# Altium footprint library PCB - RESISTOR - CHIP - YAGEO RES RK73 RS73 SG73 0805_2012.PCBLIB: 1 footprints
Each footprint in its own frame and in the unit in brackets; x right, y up, seen from the top. Pads: shape width x height; smd on the part's side, far side on the other; paste and mask are expansions set on the pad; w line width, h text height; cw(c..) or ccw(c..) is an arc to the next point about the centre after c.
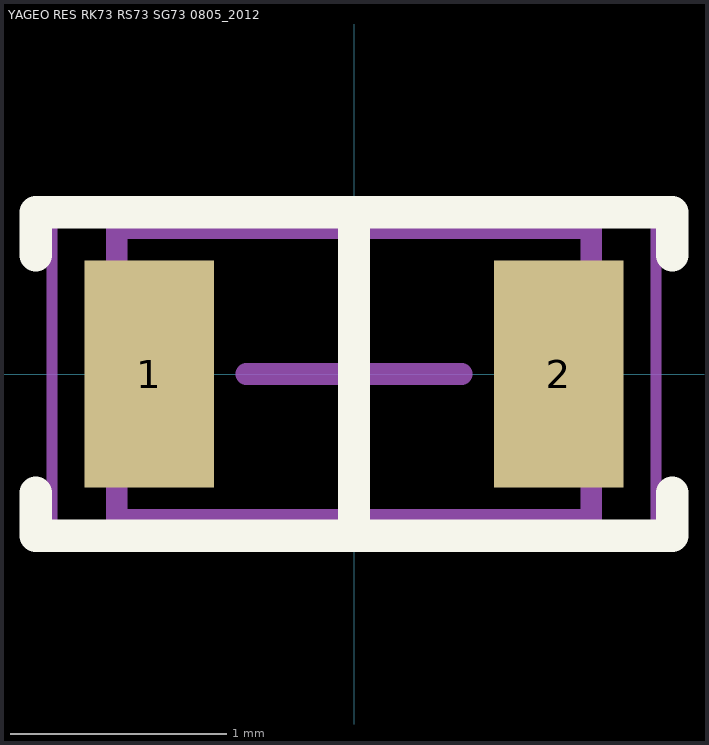
[diagram p0: the footprint, top view; thin cyan lines are the x and y axes]

## YAGEO RES RK73 RS73 SG73 0805_2012 [mm] "Chip Resistor, 2-Leads, Body 2.00x1.25mm"
height 0.7
pads (2):
  rect 0.6x1.05 smd: 1(-0.95,0) 2(0.95,0)
Top Overlay:
  lines w0.15: -1.475,-0.55 -1.475,-0.75 1.475,-0.75 1.475,-0.55 ; -1.475,0.55 -1.475,0.75 1.475,0.75 1.475,0.55 ; 0,-0.75 0,0.75
Mechanical 13:
  lines w0.1: -1.1,-0.675 1.1,-0.675 1.1,0.675 -1.1,0.675 -1.1,-0.675
Mechanical 15:
  lines w0.05: -1.4,-0.8 1.4,-0.8 1.4,0.8 -1.4,0.8 -1.4,-0.8
  lines w0.1: -0.5,0 0.5,0 ; 0,-0.5 0,0.5
3D body "0805 resistor.STEP": height 0.6, standoff 0, extent -1,-0.625 1,0.625